# Altium schematic symbol library BNO055_BREAKOUT.SchLib: 1 symbol
Pins are listed as number, name and electrical type; pins without a type are passive.

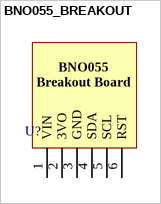
[diagram p0: symbol BNO055_BREAKOUT]

## BNO055_BREAKOUT
designator U?  (value not drawn)
pins: 1 VIN, 2 3VO, 3 GND, 4 SDA, 5 SCL, 6 RST
text: BNO055 Breakout Board